# EAGLE library part JST_SH_8 (library 16112011___connector)
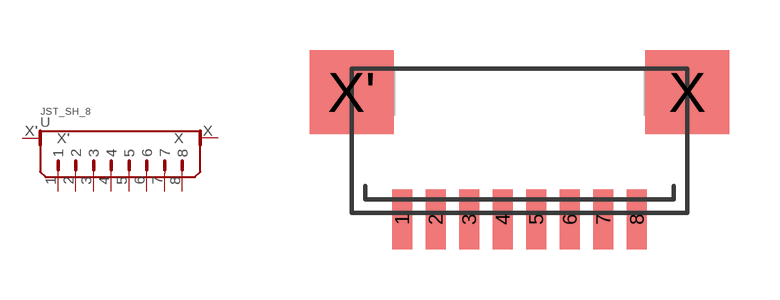
[diagram p1: symbol with the pads of JST_SH_8; footprint JST_SH_8]

Designator prefix -

## JST_SH_8  [JST_SH_8]
1  1
2  2
3  3
4  4
5  5
6  6
7  7
8  8
X  X
X'  X'

## Footprint JST_SH_8 (pad centres in mm)
smd 0.6 x 1.8: 1 -3.5,-3.47; 2 -2.5,-3.47; 3 -1.5,-3.47; 4 -0.5,-3.47; 5 0.5,-3.47; 6 1.5,-3.47; 7 2.5,-3.47; 8 3.5,-3.47
smd 2.5 x 2.5: X 5,0.33; X' -5,0.33